# Altium integrated library TI_Logic_Gate.IntLib: 2017 symbols (part 1 of 56)
Pins are listed as number, name and electrical type; pins without a type are passive.

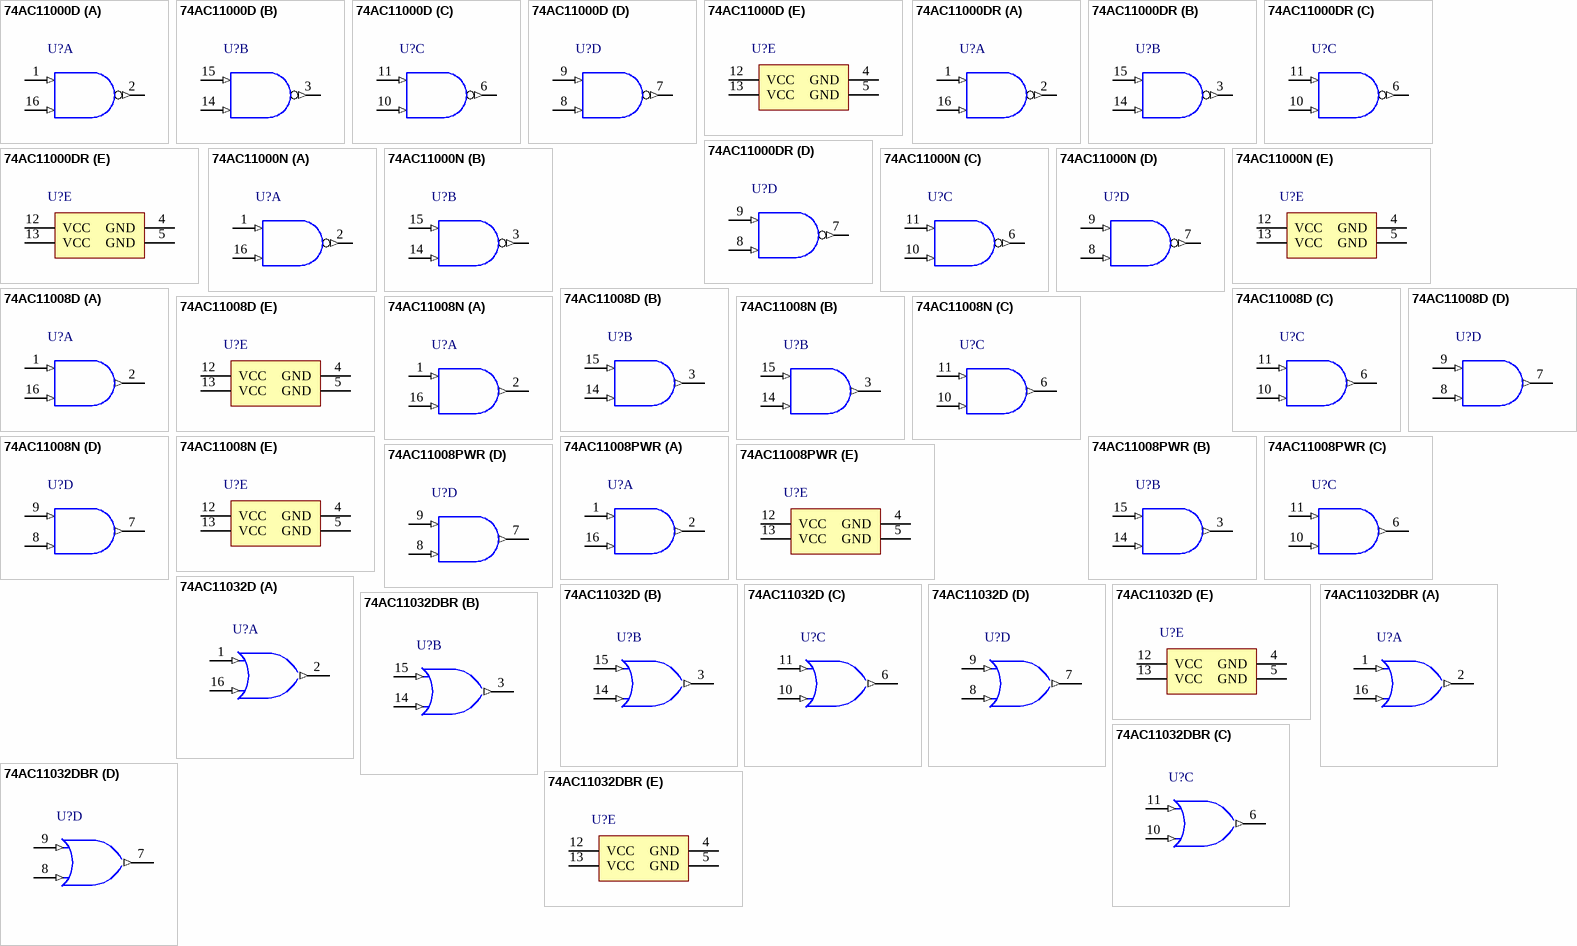
[diagram p0: symbols 74AC11000D to 74AC11032DBR]

## 74AC11000D
designator U?
Quadruple 2-Input Positive-NAND Gates, D0016A, TUBE; Generic Part Number: 74AC11000; Manufacturer: Texas Instruments; PartNumber: 74AC11000D; VCC(Min)(V): 3; VCC(Max)(V): 5.5; Output Type: CMOS; ICC @ Nom Voltage(Max)(mA): 0.04; Bits(#): 4; F @ Nom Voltage(Max)(Mhz): 100; Rating: Catalog; Technology Family: AC; Voltage(Nom)(V): 3.3,5; Schmitt Trigger: No; Output Drive (IOL/IOH)(Max)(mA): 24/-24; tpd @ Nom Voltage(Max)(ns): 11.1,7.4; DatasheetVersion: SCLS054B; PackageReference: D0016A; Supplier 1: Mouser; Supplier Part Number 1: 595-74AC11000D; Supplier 2: Digi-Key; Supplier Part Number 2: 296-32788-5-ND; Input Type: CMOS; Operating Temperature Range(C): -40 to 85; Code_JEDEC: MS-012 variation AC; ComponentLink1Description: Manufacturer URL; ComponentLink1URL: http://www.ti.com/; ComponentLink2Description: Datasheet; ComponentLink2URL: http://www.ti.com/lit/ds/symlink/74ac11000.pdf; ComponentLink3Description: Package Specification; ComponentLink3URL: http://www.ti.com/lit/ml/mpds178g/mpds178g.pdf
footprint D0016A_N (SOIC, 16-Leads, Body 10x4mm, Pitch 1.27mm, IPC Medium Density)
footprint D0016A_M (SOIC, 16-Leads, Body 10x4mm, Pitch 1.27mm, IPC Low Density)
footprint D0016A_L (SOIC, 16-Leads, Body 10x4mm, Pitch 1.27mm, IPC High Density)
part A pins: 1 1A (in), 2 1Y (out), 16 1B (in)
part B pins: 3 2Y (out), 14 2B (in), 15 2A (in)
part C pins: 6 3Y (out), 10 3B (in), 11 3A (in)
part D pins: 7 4Y (out), 8 4B (in), 9 4A (in)
part E pins: 4 GND (power), 5 GND (power), 12 VCC (power), 13 VCC (power)

## 74AC11000DR
designator U?
Quadruple 2-Input Positive-NAND Gates, D0016A, LARGE T&R; Generic Part Number: 74AC11000; Manufacturer: Texas Instruments; PartNumber: 74AC11000DR; VCC(Min)(V): 3; VCC(Max)(V): 5.5; Output Type: CMOS; ICC @ Nom Voltage(Max)(mA): 0.04; Bits(#): 4; F @ Nom Voltage(Max)(Mhz): 100; Rating: Catalog; Technology Family: AC; Voltage(Nom)(V): 3.3,5; Schmitt Trigger: No; Output Drive (IOL/IOH)(Max)(mA): 24/-24; tpd @ Nom Voltage(Max)(ns): 11.1,7.4; DatasheetVersion: SCLS054B; PackageReference: D0016A; Supplier 1: Mouser; Supplier Part Number 1: 595-74AC11000DR; Supplier 2: Digi-Key; Supplier Part Number 2: 74AC11000DR-ND; Input Type: CMOS; Operating Temperature Range(C): -40 to 85; Code_JEDEC: MS-012 variation AC; ComponentLink1Description: Manufacturer URL; ComponentLink1URL: http://www.ti.com/; ComponentLink2Description: Datasheet; ComponentLink2URL: http://www.ti.com/lit/ds/symlink/74ac11000.pdf; ComponentLink3Description: Package Specification; ComponentLink3URL: http://www.ti.com/lit/ml/mpds178g/mpds178g.pdf
footprint D0016A_N (SOIC, 16-Leads, Body 10x4mm, Pitch 1.27mm, IPC Medium Density)
footprint D0016A_M (SOIC, 16-Leads, Body 10x4mm, Pitch 1.27mm, IPC Low Density)
footprint D0016A_L (SOIC, 16-Leads, Body 10x4mm, Pitch 1.27mm, IPC High Density)
part A pins: 1 1A (in), 2 1Y (out), 16 1B (in)
part B pins: 3 2Y (out), 14 2B (in), 15 2A (in)
part C pins: 6 3Y (out), 10 3B (in), 11 3A (in)
part D pins: 7 4Y (out), 8 4B (in), 9 4A (in)
part E pins: 4 GND (power), 5 GND (power), 12 VCC (power), 13 VCC (power)

## 74AC11000N
designator U?
Quadruple 2-Input Positive-NAND Gates, N0016A, TUBE; Generic Part Number: 74AC11000; Manufacturer: Texas Instruments; PartNumber: 74AC11000N; VCC(Min)(V): 3; VCC(Max)(V): 5.5; Output Type: CMOS; ICC @ Nom Voltage(Max)(mA): 0.04; Bits(#): 4; F @ Nom Voltage(Max)(Mhz): 100; Rating: Catalog; Technology Family: AC; Voltage(Nom)(V): 3.3,5; Schmitt Trigger: No; Output Drive (IOL/IOH)(Max)(mA): 24/-24; tpd @ Nom Voltage(Max)(ns): 11.1,7.4; DatasheetVersion: SCLS054B; PackageReference: N0016A; Supplier 1: Mouser; Supplier Part Number 1: 595-74AC11000N; Supplier 2: Digi-Key; Supplier Part Number 2: 74AC11000N-ND; Input Type: CMOS; Operating Temperature Range(C): -40 to 85; Code_JEDEC: MS-001; ComponentLink1Description: Manufacturer URL; ComponentLink1URL: http://www.ti.com/; ComponentLink2Description: Datasheet; ComponentLink2URL: http://www.ti.com/lit/ds/symlink/74ac11000.pdf; ComponentLink3Description: Package Specification; ComponentLink3URL: http://www.ti.com/lit/ml/mpdi002c/mpdi002c.pdf
footprint N0016A (DIP, 16-Leads, Body 19.7x6.6mm, Pitch 2.54mm)
part A pins: 1 1A (in), 2 1Y (out), 16 1B (in)
part B pins: 3 2Y (out), 14 2B (in), 15 2A (in)
part C pins: 6 3Y (out), 10 3B (in), 11 3A (in)
part D pins: 7 4Y (out), 8 4B (in), 9 4A (in)
part E pins: 4 GND (power), 5 GND (power), 12 VCC (power), 13 VCC (power)

## 74AC11008D
designator U?
Quadruple 2-Input Positive-AND Gates, D0016A, TUBE; Generic Part Number: 74AC11008; Manufacturer: Texas Instruments; PartNumber: 74AC11008D; VCC(Min)(V): 3; VCC(Max)(V): 5.5; Output Type: CMOS; ICC @ Nom Voltage(Max)(mA): 0.04; Bits(#): 4; F @ Nom Voltage(Max)(Mhz): 100; Rating: Catalog; Technology Family: AC; Voltage(Nom)(V): 3.3,5; Schmitt Trigger: No; Output Drive (IOL/IOH)(Max)(mA): -24/24; tpd @ Nom Voltage(Max)(ns): 10.2,6.9; DatasheetVersion: SCAS014C; PackageReference: D0016A; Supplier 1: Mouser; Supplier Part Number 1: 595-74AC11008D; Supplier 2: Digi-Key; Supplier Part Number 2: 296-32789-5-ND; Input Type: CMOS; Operating Temperature Range(C): -40 to 85; ComponentLink1Description: Manufacturer URL; ComponentLink1URL: http://www.ti.com/; ComponentLink2Description: Datasheet; ComponentLink2URL: http://www.ti.com/lit/ds/symlink/74ac11008.pdf
footprint D0016A_N (SOIC, 16-Leads, Body 10x4mm, Pitch 1.27mm, IPC Medium Density)
footprint D0016A_M (SOIC, 16-Leads, Body 10x4mm, Pitch 1.27mm, IPC Low Density)
footprint D0016A_L (SOIC, 16-Leads, Body 10x4mm, Pitch 1.27mm, IPC High Density)
part A pins: 1 1A (in), 2 1Y (out), 16 1B (in)
part B pins: 3 2Y (out), 14 2B (in), 15 2A (in)
part C pins: 6 3Y (out), 10 3B (in), 11 3A (in)
part D pins: 7 4Y (out), 8 4B (in), 9 4A (in)
part E pins: 4 GND (power), 5 GND (power), 12 VCC (power), 13 VCC (power)

## 74AC11008N
designator U?
Quadruple 2-Input Positive-AND Gates, N0016A, TUBE; Generic Part Number: 74AC11008; Manufacturer: Texas Instruments; PartNumber: 74AC11008N; VCC(Min)(V): 3; VCC(Max)(V): 5.5; Output Type: CMOS; ICC @ Nom Voltage(Max)(mA): 0.04; Bits(#): 4; F @ Nom Voltage(Max)(Mhz): 100; Rating: Catalog; Technology Family: AC; Voltage(Nom)(V): 3.3,5; Schmitt Trigger: No; Output Drive (IOL/IOH)(Max)(mA): -24/24; tpd @ Nom Voltage(Max)(ns): 10.2,6.9; DatasheetVersion: SCAS014C; PackageReference: N0016A; Supplier 1: Mouser; Supplier Part Number 1: 595-74AC11008N; Supplier 2: Digi-Key; Supplier Part Number 2: 296-4154-5-ND; Input Type: CMOS; Operating Temperature Range(C): -40 to 85; ComponentLink1Description: Manufacturer URL; ComponentLink1URL: http://www.ti.com/; ComponentLink2Description: Datasheet; ComponentLink2URL: http://www.ti.com/lit/ds/symlink/74ac11008.pdf
footprint N0016A (DIP, 16-Leads, Body 19.7x6.6mm, Pitch 2.54mm)
part A pins: 1 1A (in), 2 1Y (out), 16 1B (in)
part B pins: 3 2Y (out), 14 2B (in), 15 2A (in)
part C pins: 6 3Y (out), 10 3B (in), 11 3A (in)
part D pins: 7 4Y (out), 8 4B (in), 9 4A (in)
part E pins: 4 GND (power), 5 GND (power), 12 VCC (power), 13 VCC (power)

## 74AC11008PWR
designator U?
Quadruple 2-Input Positive-AND Gates, PW0016A, LARGE T&R; Generic Part Number: 74AC11008; Manufacturer: Texas Instruments; PartNumber: 74AC11008PWR; VCC(Min)(V): 3; VCC(Max)(V): 5.5; Output Type: CMOS; ICC @ Nom Voltage(Max)(mA): 0.04; Bits(#): 4; F @ Nom Voltage(Max)(Mhz): 100; Rating: Catalog; Technology Family: AC; Voltage(Nom)(V): 3.3,5; Schmitt Trigger: No; Output Drive (IOL/IOH)(Max)(mA): -24/24; tpd @ Nom Voltage(Max)(ns): 10.2,6.9; DatasheetVersion: SCAS014C; PackageReference: PW0016A; Supplier 1: Mouser; Supplier Part Number 1: 595-74AC11008PWR; Supplier 2: Digi-Key; Supplier Part Number 2: 296-4155-2-ND; Supplier 3: Digi-Key; Supplier Part Number 3: 296-4155-1-ND; Supplier 4: Digi-Key; Supplier Part Number 4: 296-4155-6-ND; Input Type: CMOS; Operating Temperature Range(C): -40 to 85; ComponentLink1Description: Manufacturer URL; ComponentLink1URL: http://www.ti.com/; ComponentLink2Description: Datasheet; ComponentLink2URL: http://www.ti.com/lit/ds/symlink/74ac11008.pdf
footprint PW0016A_N (SOP, 16-Leads, Body 5.1x4.5mm, Pitch 0.65mm, IPC Medium Density)
footprint PW0016A_M (SOP, 16-Leads, Body 5.1x4.5mm, Pitch 0.65mm, IPC Low Density)
footprint PW0016A_L (SOP, 16-Leads, Body 5.1x4.5mm, Pitch 0.65mm, IPC High Density)
part A pins: 1 1A (in), 2 1Y (out), 16 1B (in)
part B pins: 3 2Y (out), 14 2B (in), 15 2A (in)
part C pins: 6 3Y (out), 10 3B (in), 11 3A (in)
part D pins: 7 4Y (out), 8 4B (in), 9 4A (in)
part E pins: 4 GND (power), 5 GND (power), 12 VCC (power), 13 VCC (power)

## 74AC11032D
designator U?
Quadruple 2-Input Positive-OR Gates, D0016A, TUBE; Generic Part Number: 74AC11032; Manufacturer: Texas Instruments; PartNumber: 74AC11032D; VCC(Min)(V): 3; VCC(Max)(V): 5.5; Output Type: CMOS; ICC @ Nom Voltage(Max)(mA): 0.04; Bits(#): 4; F @ Nom Voltage(Max)(Mhz): 100; Rating: Catalog; Voltage(Nom)(V): 3.3,5; Output Drive (IOL/IOH)(Max)(mA): 24/-24; tpd @ Nom Voltage(Max)(ns): 9.7,6.7; DatasheetVersion: SCAS007C; PackageReference: D0016A; Input Type: CMOS; Operating Temperature Range(C): -40 to 85; Code_JEDEC: MS-012 variation AC; ComponentLink1Description: Manufacturer URL; ComponentLink1URL: http://www.ti.com/; ComponentLink2Description: Datasheet; ComponentLink2URL: http://www.ti.com/lit/ds/symlink/74ac11032.pdf; ComponentLink3Description: Package Specification; ComponentLink3URL: http://www.ti.com/lit/ml/mpds178g/mpds178g.pdf
footprint D0016A_N (SOIC, 16-Leads, Body 10x4mm, Pitch 1.27mm, IPC Medium Density)
footprint D0016A_M (SOIC, 16-Leads, Body 10x4mm, Pitch 1.27mm, IPC Low Density)
footprint D0016A_L (SOIC, 16-Leads, Body 10x4mm, Pitch 1.27mm, IPC High Density)
part A pins: 1 1A (in), 2 1Y (out), 16 1B (in)
part B pins: 3 2Y (out), 14 2B (in), 15 2A (in)
part C pins: 6 3Y (out), 10 3B (in), 11 3A (in)
part D pins: 7 4Y (out), 8 4B (in), 9 4A (in)
part E pins: 4 GND (power), 5 GND (power), 12 VCC (power), 13 VCC (power)

## 74AC11032DBR
designator U?
Quadruple 2-Input Positive-OR Gates, DB0016A, LARGE T&R; Generic Part Number: 74AC11032; Manufacturer: Texas Instruments; PartNumber: 74AC11032DBR; VCC(Min)(V): 3; VCC(Max)(V): 5.5; Output Type: CMOS; ICC @ Nom Voltage(Max)(mA): 0.04; Bits(#): 4; F @ Nom Voltage(Max)(Mhz): 100; Rating: Catalog; Voltage(Nom)(V): 3.3,5; Output Drive (IOL/IOH)(Max)(mA): 24/-24; tpd @ Nom Voltage(Max)(ns): 9.7,6.7; DatasheetVersion: SCAS007C; PackageReference: DB0016A; Input Type: CMOS; Operating Temperature Range(C): -40 to 85; Code_JEDEC: MO-150; ComponentLink1Description: Manufacturer URL; ComponentLink1URL: http://www.ti.com/; ComponentLink2Description: Datasheet; ComponentLink2URL: http://www.ti.com/lit/ds/symlink/74ac11032.pdf; ComponentLink3Description: Package Specification; ComponentLink3URL: http://www.ti.com/lit/ml/mpds507/mpds507.pdf
footprint DB0016A_N (SOP, 16-Leads, Body 5.6x6.5mm, Pitch 0.65mm, IPC Medium Density)
footprint DB0016A_M (SOP, 16-Leads, Body 5.6x6.5mm, Pitch 0.65mm, IPC Low Density)
footprint DB0016A_L (SOP, 16-Leads, Body 5.6x6.5mm, Pitch 0.65mm, IPC High Density)
part A pins: 1 1A (in), 2 1Y (out), 16 1B (in)
part B pins: 3 2Y (out), 14 2B (in), 15 2A (in)
part C pins: 6 3Y (out), 10 3B (in), 11 3A (in)
part D pins: 7 4Y (out), 8 4B (in), 9 4A (in)
part E pins: 4 GND (power), 5 GND (power), 12 VCC (power), 13 VCC (power)

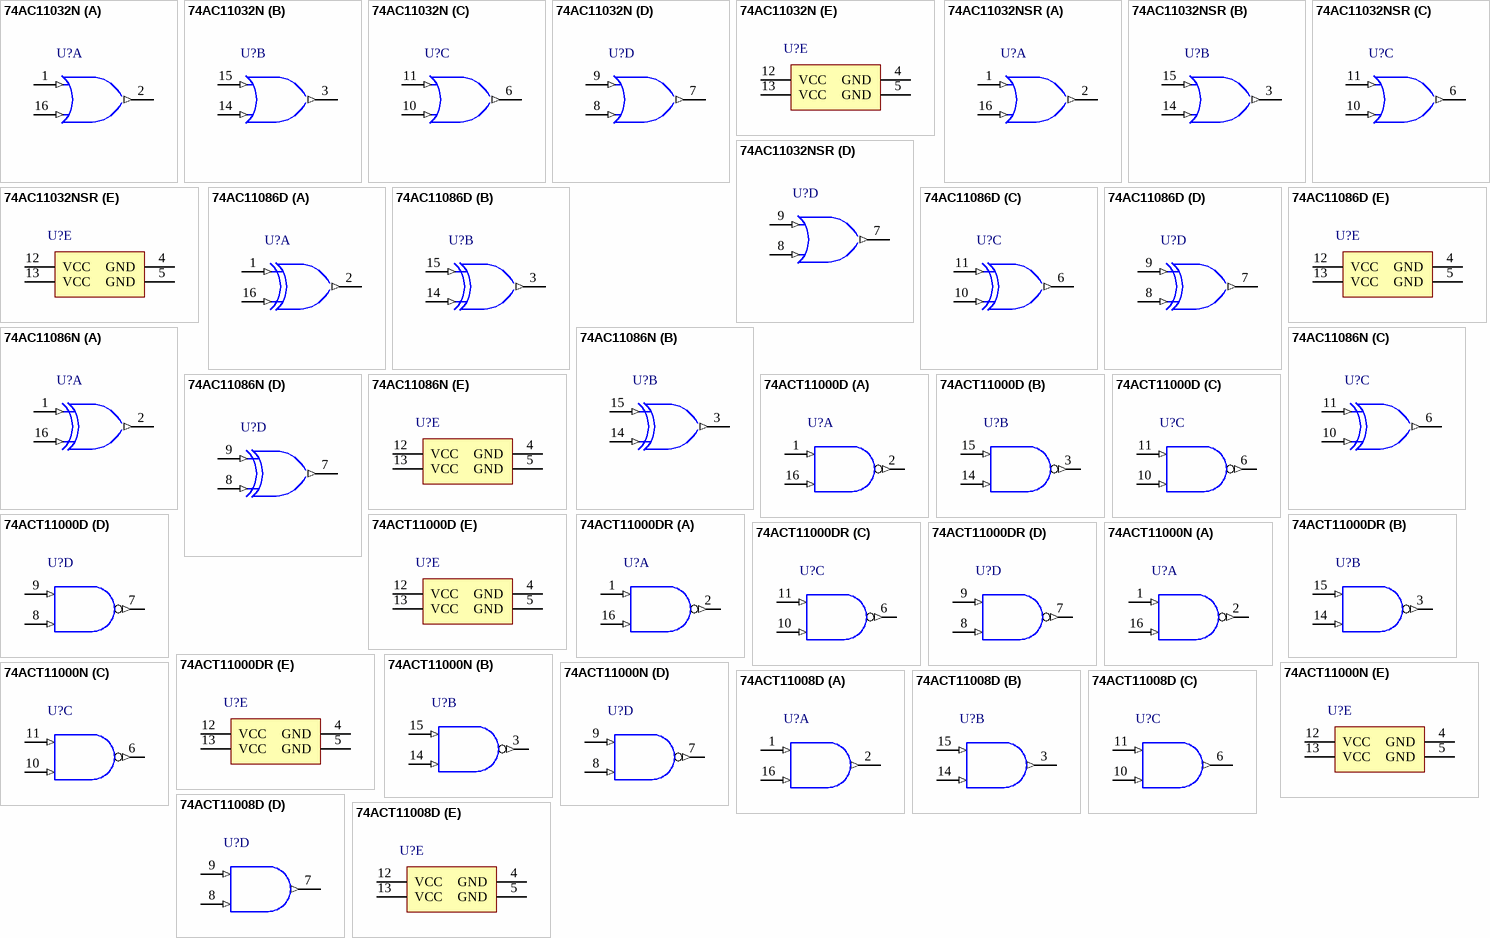
[diagram p1: symbols 74AC11032N to 74ACT11008D]

## 74AC11032N
designator U?
Quadruple 2-Input Positive-OR Gates, N0016A, TUBE; Generic Part Number: 74AC11032; Manufacturer: Texas Instruments; PartNumber: 74AC11032N; VCC(Min)(V): 3; VCC(Max)(V): 5.5; Output Type: CMOS; ICC @ Nom Voltage(Max)(mA): 0.04; Bits(#): 4; F @ Nom Voltage(Max)(Mhz): 100; Rating: Catalog; Voltage(Nom)(V): 3.3,5; Output Drive (IOL/IOH)(Max)(mA): 24/-24; tpd @ Nom Voltage(Max)(ns): 9.7,6.7; DatasheetVersion: SCAS007C; PackageReference: N0016A; Input Type: CMOS; Operating Temperature Range(C): -40 to 85; Code_JEDEC: MS-001; ComponentLink1Description: Manufacturer URL; ComponentLink1URL: http://www.ti.com/; ComponentLink2Description: Datasheet; ComponentLink2URL: http://www.ti.com/lit/ds/symlink/74ac11032.pdf; ComponentLink3Description: Package Specification; ComponentLink3URL: http://www.ti.com/lit/ml/mpdi002c/mpdi002c.pdf
footprint N0016A (DIP, 16-Leads, Body 19.7x6.6mm, Pitch 2.54mm)
part A pins: 1 1A (in), 2 1Y (out), 16 1B (in)
part B pins: 3 2Y (out), 14 2B (in), 15 2A (in)
part C pins: 6 3Y (out), 10 3B (in), 11 3A (in)
part D pins: 7 4Y (out), 8 4B (in), 9 4A (in)
part E pins: 4 GND (power), 5 GND (power), 12 VCC (power), 13 VCC (power)

## 74AC11032NSR
designator U?
Quadruple 2-Input Positive-OR Gates, NS0016A, LARGE T&R; Generic Part Number: 74AC11032; Manufacturer: Texas Instruments; PartNumber: 74AC11032NSR; VCC(Min)(V): 3; VCC(Max)(V): 5.5; Output Type: CMOS; ICC @ Nom Voltage(Max)(mA): 0.04; Bits(#): 4; F @ Nom Voltage(Max)(Mhz): 100; Rating: Catalog; Voltage(Nom)(V): 3.3,5; Output Drive (IOL/IOH)(Max)(mA): 24/-24; tpd @ Nom Voltage(Max)(ns): 9.7,6.7; DatasheetVersion: SCAS007C; PackageReference: NS0016A; Input Type: CMOS; Operating Temperature Range(C): -40 to 85; ComponentLink1Description: Manufacturer URL; ComponentLink1URL: http://www.ti.com/; ComponentLink2Description: Datasheet; ComponentLink2URL: http://www.ti.com/lit/ds/symlink/74ac11032.pdf; ComponentLink3Description: Package Specification; ComponentLink3URL: http://www.ti.com/lit/ml/msop002a/msop002a.pdf
footprint NS0016A_N (SOIC,16-Leads,Body 10.5x5.6mm,Pitch 1.27mm,IPC Medium Density)
footprint NS0016A_M (SOIC,16-Leads,Body 10.5x5.6mm,Pitch 1.27mm,IPC Low Density)
footprint NS0016A_L (SOIC,16-Leads,Body 10.5x5.6mm,Pitch 1.27mm,IPC High Density)
part A pins: 1 1A (in), 2 1Y (out), 16 1B (in)
part B pins: 3 2Y (out), 14 2B (in), 15 2A (in)
part C pins: 6 3Y (out), 10 3B (in), 11 3A (in)
part D pins: 7 4Y (out), 8 4B (in), 9 4A (in)
part E pins: 4 GND (power), 5 GND (power), 12 VCC (power), 13 VCC (power)

## 74AC11086D
designator U?
Quadruple 2-Input Exclusive-OR Gates, D0016A, TUBE; Generic Part Number: 74AC11086; Manufacturer: Texas Instruments; PartNumber: 74AC11086D; VCC(Min)(V): 3; VCC(Max)(V): 5.5; Output Type: CMOS; ICC @ Nom Voltage(Max)(mA): 0.04; Bits(#): 4; F @ Nom Voltage(Max)(Mhz): 100; Rating: Catalog; Technology Family: AC; Voltage(Nom)(V): 3.3,5; Schmitt Trigger: No; Output Drive (IOL/IOH)(Max)(mA): 24/-24; tpd @ Nom Voltage(Max)(ns): 10.6,7.6; DatasheetVersion: SCAS081A; PackageReference: D0016A; Supplier 1: Mouser; Supplier Part Number 1: 595-74AC11086D; Supplier 2: Digi-Key; Supplier Part Number 2: 296-4161-5-ND; Input Type: CMOS; Operating Temperature Range(C): -40 to 85; ComponentLink1Description: Manufacturer URL; ComponentLink1URL: http://www.ti.com/; ComponentLink2Description: Datasheet; ComponentLink2URL: http://www.ti.com/lit/ds/symlink/74ac11086.pdf
footprint D0016A_N (SOIC, 16-Leads, Body 10x4mm, Pitch 1.27mm, IPC Medium Density)
footprint D0016A_M (SOIC, 16-Leads, Body 10x4mm, Pitch 1.27mm, IPC Low Density)
footprint D0016A_L (SOIC, 16-Leads, Body 10x4mm, Pitch 1.27mm, IPC High Density)
part A pins: 1 1A (in), 2 1Y (out), 16 1B (in)
part B pins: 3 2Y (out), 14 2B (in), 15 2A (in)
part C pins: 6 3Y (out), 10 3B (in), 11 3A (in)
part D pins: 7 4Y (out), 8 4B (in), 9 4A (in)
part E pins: 4 GND (power), 5 GND (power), 12 VCC (power), 13 VCC (power)

## 74AC11086N
designator U?
Quadruple 2-Input Exclusive-OR Gates, N0016A, TUBE; Generic Part Number: 74AC11086; Manufacturer: Texas Instruments; PartNumber: 74AC11086N; VCC(Min)(V): 3; VCC(Max)(V): 5.5; Output Type: CMOS; ICC @ Nom Voltage(Max)(mA): 0.04; Bits(#): 4; F @ Nom Voltage(Max)(Mhz): 100; Rating: Catalog; Technology Family: AC; Voltage(Nom)(V): 3.3,5; Schmitt Trigger: No; Output Drive (IOL/IOH)(Max)(mA): 24/-24; tpd @ Nom Voltage(Max)(ns): 10.6,7.6; DatasheetVersion: SCAS081A; PackageReference: N0016A; Supplier 1: Mouser; Supplier Part Number 1: 595-74AC11086N; Supplier 2: Digi-Key; Supplier Part Number 2: 296-32791-5-ND; Input Type: CMOS; Operating Temperature Range(C): -40 to 85; ComponentLink1Description: Manufacturer URL; ComponentLink1URL: http://www.ti.com/; ComponentLink2Description: Datasheet; ComponentLink2URL: http://www.ti.com/lit/ds/symlink/74ac11086.pdf
footprint N0016A (DIP, 16-Leads, Body 19.7x6.6mm, Pitch 2.54mm)
part A pins: 1 1A (in), 2 1Y (out), 16 1B (in)
part B pins: 3 2Y (out), 14 2B (in), 15 2A (in)
part C pins: 6 3Y (out), 10 3B (in), 11 3A (in)
part D pins: 7 4Y (out), 8 4B (in), 9 4A (in)
part E pins: 4 GND (power), 5 GND (power), 12 VCC (power), 13 VCC (power)

## 74ACT11000D
designator U?
Quadruple 2-Input Positive-NAND Gates, D0016A, TUBE; Generic Part Number: 74ACT11000; Manufacturer: Texas Instruments; PartNumber: 74ACT11000D; VCC(Min)(V): 4.5; VCC(Max)(V): 5.5; Output Type: CMOS; ICC @ Nom Voltage(Max)(mA): 0.04; Input Type: TTL; Bits(#): 4; F @ Nom Voltage(Max)(Mhz): 90; Rating: Catalog; Technology Family: ACT; Voltage(Nom)(V): 5; Schmitt Trigger: No; Output Drive (IOL/IOH)(Max)(mA): 24/-24; tpd @ Nom Voltage(Max)(ns): 12.3; DatasheetVersion: SCAS002A; PackageReference: D0016A; Supplier 1: Mouser; Supplier Part Number 1: 595-74ACT11000D; Supplier 2: Digi-Key; Supplier Part Number 2: 296-4175-5-ND; Operating Temperature Range(C): -40 to 85; Code_JEDEC: MS-012 variation AC; ComponentLink1Description: Manufacturer URL; ComponentLink1URL: http://www.ti.com/; ComponentLink2Description: Datasheet; ComponentLink2URL: http://www.ti.com/lit/ds/symlink/74act11000.pdf; ComponentLink3Description: Package Specification; ComponentLink3URL: http://www.ti.com/lit/ml/mpds178g/mpds178g.pdf
footprint D0016A_N (SOIC, 16-Leads, Body 10x4mm, Pitch 1.27mm, IPC Medium Density)
footprint D0016A_M (SOIC, 16-Leads, Body 10x4mm, Pitch 1.27mm, IPC Low Density)
footprint D0016A_L (SOIC, 16-Leads, Body 10x4mm, Pitch 1.27mm, IPC High Density)
part A pins: 1 1A (in), 2 1Y (out), 16 1B (in)
part B pins: 3 2Y (out), 14 2B (in), 15 2A (in)
part C pins: 6 3Y (out), 10 3B (in), 11 3A (in)
part D pins: 7 4Y (out), 8 4B (in), 9 4A (in)
part E pins: 4 GND (power), 5 GND (power), 12 VCC (power), 13 VCC (power)

## 74ACT11000DR
designator U?
Quadruple 2-Input Positive-NAND Gates, D0016A, LARGE T&R; Generic Part Number: 74ACT11000; Manufacturer: Texas Instruments; PartNumber: 74ACT11000DR; VCC(Min)(V): 4.5; VCC(Max)(V): 5.5; Output Type: CMOS; ICC @ Nom Voltage(Max)(mA): 0.04; Input Type: TTL; Bits(#): 4; F @ Nom Voltage(Max)(Mhz): 90; Rating: Catalog; Technology Family: ACT; Voltage(Nom)(V): 5; Schmitt Trigger: No; Output Drive (IOL/IOH)(Max)(mA): 24/-24; tpd @ Nom Voltage(Max)(ns): 12.3; DatasheetVersion: SCAS002A; PackageReference: D0016A; Supplier 1: Mouser; Supplier Part Number 1: 595-74ACT11000DR; Supplier 2: Digi-Key; Supplier Part Number 2: 296-14295-2-ND; Supplier 3: Digi-Key; Supplier Part Number 3: 296-14295-1-ND; Supplier 4: Digi-Key; Supplier Part Number 4: 296-14295-6-ND; Operating Temperature Range(C): -40 to 85; Code_JEDEC: MS-012 variation AC; ComponentLink1Description: Manufacturer URL; ComponentLink1URL: http://www.ti.com/; ComponentLink2Description: Datasheet; ComponentLink2URL: http://www.ti.com/lit/ds/symlink/74act11000.pdf; ComponentLink3Description: Package Specification; ComponentLink3URL: http://www.ti.com/lit/ml/mpds178g/mpds178g.pdf
footprint D0016A_N (SOIC, 16-Leads, Body 10x4mm, Pitch 1.27mm, IPC Medium Density)
footprint D0016A_M (SOIC, 16-Leads, Body 10x4mm, Pitch 1.27mm, IPC Low Density)
footprint D0016A_L (SOIC, 16-Leads, Body 10x4mm, Pitch 1.27mm, IPC High Density)
part A pins: 1 1A (in), 2 1Y (out), 16 1B (in)
part B pins: 3 2Y (out), 14 2B (in), 15 2A (in)
part C pins: 6 3Y (out), 10 3B (in), 11 3A (in)
part D pins: 7 4Y (out), 8 4B (in), 9 4A (in)
part E pins: 4 GND (power), 5 GND (power), 12 VCC (power), 13 VCC (power)

## 74ACT11000N
designator U?
Quadruple 2-Input Positive-NAND Gates, N0016A, TUBE; Generic Part Number: 74ACT11000; Manufacturer: Texas Instruments; PartNumber: 74ACT11000N; VCC(Min)(V): 4.5; VCC(Max)(V): 5.5; Output Type: CMOS; ICC @ Nom Voltage(Max)(mA): 0.04; Input Type: TTL; Bits(#): 4; F @ Nom Voltage(Max)(Mhz): 90; Rating: Catalog; Technology Family: ACT; Voltage(Nom)(V): 5; Schmitt Trigger: No; Output Drive (IOL/IOH)(Max)(mA): 24/-24; tpd @ Nom Voltage(Max)(ns): 12.3; DatasheetVersion: SCAS002A; PackageReference: N0016A; Supplier 1: Mouser; Supplier Part Number 1: 595-74ACT11000N; Supplier 2: Digi-Key; Supplier Part Number 2: 296-4176-5-ND; Operating Temperature Range(C): -40 to 85; Code_JEDEC: MS-001; ComponentLink1Description: Manufacturer URL; ComponentLink1URL: http://www.ti.com/; ComponentLink2Description: Datasheet; ComponentLink2URL: http://www.ti.com/lit/ds/symlink/74act11000.pdf; ComponentLink3Description: Package Specification; ComponentLink3URL: http://www.ti.com/lit/ml/mpdi002c/mpdi002c.pdf
footprint N0016A (DIP, 16-Leads, Body 19.7x6.6mm, Pitch 2.54mm)
part A pins: 1 1A (in), 2 1Y (out), 16 1B (in)
part B pins: 3 2Y (out), 14 2B (in), 15 2A (in)
part C pins: 6 3Y (out), 10 3B (in), 11 3A (in)
part D pins: 7 4Y (out), 8 4B (in), 9 4A (in)
part E pins: 4 GND (power), 5 GND (power), 12 VCC (power), 13 VCC (power)

## 74ACT11008D
designator U?
Quadruple 2-Input Positive-AND Gates, D0016A, TUBE; Generic Part Number: 74ACT11008; Manufacturer: Texas Instruments; PartNumber: 74ACT11008D; VCC(Min)(V): 4.5; VCC(Max)(V): 5.5; Output Type: CMOS; ICC @ Nom Voltage(Max)(mA): 0.04; Input Type: TTL; Bits(#): 4; F @ Nom Voltage(Max)(Mhz): 90; Rating: Catalog; Technology Family: ACT; Voltage(Nom)(V): 5; Schmitt Trigger: No; Output Drive (IOL/IOH)(Max)(mA): -24/24; tpd @ Nom Voltage(Max)(ns): 9; DatasheetVersion: SCAS013C; PackageReference: D0016A; Supplier 1: Mouser; Supplier Part Number 1: 595-74ACT11008D; Supplier 2: Digi-Key; Supplier Part Number 2: 296-4178-5-ND; Operating Temperature Range(C): -40 to 85; ComponentLink1Description: Manufacturer URL; ComponentLink1URL: http://www.ti.com/; ComponentLink2Description: Datasheet; ComponentLink2URL: http://www.ti.com/lit/ds/symlink/74act11008.pdf
footprint D0016A_N (SOIC, 16-Leads, Body 10x4mm, Pitch 1.27mm, IPC Medium Density)
footprint D0016A_M (SOIC, 16-Leads, Body 10x4mm, Pitch 1.27mm, IPC Low Density)
footprint D0016A_L (SOIC, 16-Leads, Body 10x4mm, Pitch 1.27mm, IPC High Density)
part A pins: 1 1A (in), 2 1Y (out), 16 1B (in)
part B pins: 3 2Y (out), 14 2B (in), 15 2A (in)
part C pins: 6 3Y (out), 10 3B (in), 11 3A (in)
part D pins: 7 4Y (out), 8 4B (in), 9 4A (in)
part E pins: 4 GND (power), 5 GND (power), 12 VCC (power), 13 VCC (power)

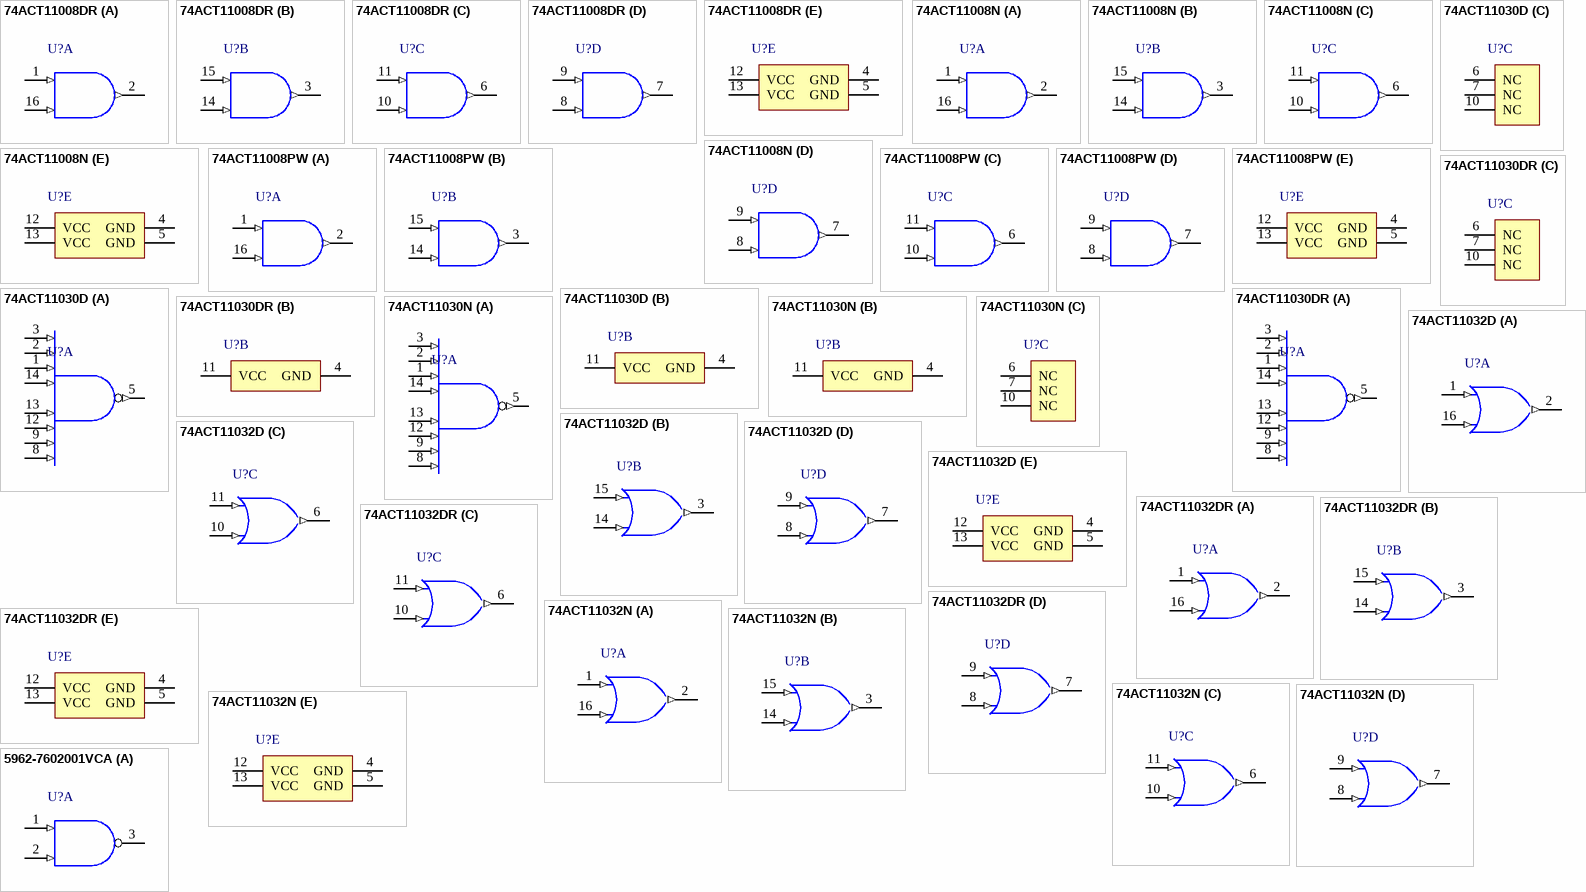
[diagram p2: symbols 74ACT11008DR to 5962-7602001VCA]

## 74ACT11008DR
designator U?
Quadruple 2-Input Positive-AND Gates, D0016A, LARGE T&R; Generic Part Number: 74ACT11008; Manufacturer: Texas Instruments; PartNumber: 74ACT11008DR; VCC(Min)(V): 4.5; VCC(Max)(V): 5.5; Output Type: CMOS; ICC @ Nom Voltage(Max)(mA): 0.04; Input Type: TTL; Bits(#): 4; F @ Nom Voltage(Max)(Mhz): 90; Rating: Catalog; Technology Family: ACT; Voltage(Nom)(V): 5; Schmitt Trigger: No; Output Drive (IOL/IOH)(Max)(mA): -24/24; tpd @ Nom Voltage(Max)(ns): 9; DatasheetVersion: SCAS013C; PackageReference: D0016A; Supplier 1: Mouser; Supplier Part Number 1: 595-74ACT11008DR; Supplier 2: Digi-Key; Supplier Part Number 2: 74ACT11008DR-ND; Operating Temperature Range(C): -40 to 85; ComponentLink1Description: Manufacturer URL; ComponentLink1URL: http://www.ti.com/; ComponentLink2Description: Datasheet; ComponentLink2URL: http://www.ti.com/lit/ds/symlink/74act11008.pdf
footprint D0016A_N (SOIC, 16-Leads, Body 10x4mm, Pitch 1.27mm, IPC Medium Density)
footprint D0016A_M (SOIC, 16-Leads, Body 10x4mm, Pitch 1.27mm, IPC Low Density)
footprint D0016A_L (SOIC, 16-Leads, Body 10x4mm, Pitch 1.27mm, IPC High Density)
part A pins: 1 1A (in), 2 1Y (out), 16 1B (in)
part B pins: 3 2Y (out), 14 2B (in), 15 2A (in)
part C pins: 6 3Y (out), 10 3B (in), 11 3A (in)
part D pins: 7 4Y (out), 8 4B (in), 9 4A (in)
part E pins: 4 GND (power), 5 GND (power), 12 VCC (power), 13 VCC (power)

## 74ACT11008N
designator U?
Quadruple 2-Input Positive-AND Gates, N0016A, TUBE; Generic Part Number: 74ACT11008; Manufacturer: Texas Instruments; PartNumber: 74ACT11008N; VCC(Min)(V): 4.5; VCC(Max)(V): 5.5; Output Type: CMOS; ICC @ Nom Voltage(Max)(mA): 0.04; Input Type: TTL; Bits(#): 4; F @ Nom Voltage(Max)(Mhz): 90; Rating: Catalog; Technology Family: ACT; Voltage(Nom)(V): 5; Schmitt Trigger: No; Output Drive (IOL/IOH)(Max)(mA): -24/24; tpd @ Nom Voltage(Max)(ns): 9; DatasheetVersion: SCAS013C; PackageReference: N0016A; Supplier 1: Mouser; Supplier Part Number 1: 595-74ACT11008N; Supplier 2: Digi-Key; Supplier Part Number 2: 296-4179-5-ND; Operating Temperature Range(C): -40 to 85; ComponentLink1Description: Manufacturer URL; ComponentLink1URL: http://www.ti.com/; ComponentLink2Description: Datasheet; ComponentLink2URL: http://www.ti.com/lit/ds/symlink/74act11008.pdf
footprint N0016A (DIP, 16-Leads, Body 19.7x6.6mm, Pitch 2.54mm)
part A pins: 1 1A (in), 2 1Y (out), 16 1B (in)
part B pins: 3 2Y (out), 14 2B (in), 15 2A (in)
part C pins: 6 3Y (out), 10 3B (in), 11 3A (in)
part D pins: 7 4Y (out), 8 4B (in), 9 4A (in)
part E pins: 4 GND (power), 5 GND (power), 12 VCC (power), 13 VCC (power)

## 74ACT11008PW
designator U?
Quadruple 2-Input Positive-AND Gates, PW0016A, TUBE; Generic Part Number: 74ACT11008; Manufacturer: Texas Instruments; PartNumber: 74ACT11008PW; VCC(Min)(V): 4.5; VCC(Max)(V): 5.5; Output Type: CMOS; ICC @ Nom Voltage(Max)(mA): 0.04; Input Type: TTL; Bits(#): 4; F @ Nom Voltage(Max)(Mhz): 90; Rating: Catalog; Technology Family: ACT; Voltage(Nom)(V): 5; Schmitt Trigger: No; Output Drive (IOL/IOH)(Max)(mA): -24/24; tpd @ Nom Voltage(Max)(ns): 9; DatasheetVersion: SCAS013C; PackageReference: PW0016A; Supplier 1: Mouser; Supplier Part Number 1: 595-74ACT11008PW; Supplier 2: Digi-Key; Supplier Part Number 2: 296-32801-5-ND; Operating Temperature Range(C): -40 to 85; ComponentLink1Description: Manufacturer URL; ComponentLink1URL: http://www.ti.com/; ComponentLink2Description: Datasheet; ComponentLink2URL: http://www.ti.com/lit/ds/symlink/74act11008.pdf
footprint PW0016A_N (SOP, 16-Leads, Body 5.1x4.5mm, Pitch 0.65mm, IPC Medium Density)
footprint PW0016A_M (SOP, 16-Leads, Body 5.1x4.5mm, Pitch 0.65mm, IPC Low Density)
footprint PW0016A_L (SOP, 16-Leads, Body 5.1x4.5mm, Pitch 0.65mm, IPC High Density)
part A pins: 1 1A (in), 2 1Y (out), 16 1B (in)
part B pins: 3 2Y (out), 14 2B (in), 15 2A (in)
part C pins: 6 3Y (out), 10 3B (in), 11 3A (in)
part D pins: 7 4Y (out), 8 4B (in), 9 4A (in)
part E pins: 4 GND (power), 5 GND (power), 12 VCC (power), 13 VCC (power)

## 74ACT11030D
designator U?
8-Input Positive-NAND Gates, D0014A, TUBE; Generic Part Number: 74ACT11030; Manufacturer: Texas Instruments; PartNumber: 74ACT11030D; VCC(Min)(V): 4.5; VCC(Max)(V): 5.5; Output Type: CMOS; ICC @ Nom Voltage(Max)(mA): 0.04; Input Type: TTL; Bits(#): 1; F @ Nom Voltage(Max)(Mhz): 90; Rating: Catalog; Technology Family: ACT; Voltage(Nom)(V): 5; Schmitt Trigger: No; Output Drive (IOL/IOH)(Max)(mA): 24/-24; tpd @ Nom Voltage(Max)(ns): 8.7; DatasheetVersion: SCLS050; PackageReference: D0014A; Supplier 1: Mouser; Supplier Part Number 1: 595-74ACT11030D; Supplier 2: Digi-Key; Supplier Part Number 2: 74ACT11030D-ND; Operating Temperature Range(C): -40 to 85; Code_JEDEC: MS-012; ComponentLink1Description: Manufacturer URL; ComponentLink1URL: http://www.ti.com/; ComponentLink2Description: Datasheet; ComponentLink2URL: http://www.ti.com/lit/ds/symlink/74act11030.pdf; ComponentLink3Description: Package Specification; ComponentLink3URL: http://www.ti.com/lit/ml/mpds177g/mpds177g.pdf
footprint D0014A_N (SOIC, 14-Leads, Body 8.75x4mm, Pitch 1.27mm, IPC Medium Density)
footprint D0014A_M (SOIC, 14-Leads, Body 8.75x4mm, Pitch 1.27mm, IPC Low Density)
footprint D0014A_L (SOIC, 14-Leads, Body 8.75x4mm, Pitch 1.27mm, IPC High Density)
part A pins: 1 C (in), 2 B (in), 3 A (in), 5 Y (out), 8 H (in), 9 G (in), 12 F (in), 13 E (in), 14 D (in)
part B pins: 4 GND (power), 11 VCC (power)
part C pins: 6 NC, 7 NC, 10 NC

## 74ACT11030DR
designator U?
8-Input Positive-NAND Gates, D0014A, LARGE T&R; Generic Part Number: 74ACT11030; Manufacturer: Texas Instruments; PartNumber: 74ACT11030DR; VCC(Min)(V): 4.5; VCC(Max)(V): 5.5; Output Type: CMOS; ICC @ Nom Voltage(Max)(mA): 0.04; Input Type: TTL; Bits(#): 1; F @ Nom Voltage(Max)(Mhz): 90; Rating: Catalog; Technology Family: ACT; Voltage(Nom)(V): 5; Schmitt Trigger: No; Output Drive (IOL/IOH)(Max)(mA): 24/-24; tpd @ Nom Voltage(Max)(ns): 8.7; DatasheetVersion: SCLS050; PackageReference: D0014A; Supplier 1: Mouser; Supplier Part Number 1: 595-74ACT11030DR; Supplier 2: Digi-Key; Supplier Part Number 2: 296-4180-2-ND; Supplier 3: Digi-Key; Supplier Part Number 3: 296-4180-1-ND; Supplier 4: Digi-Key; Supplier Part Number 4: 296-4180-6-ND; Operating Temperature Range(C): -40 to 85; Code_JEDEC: MS-012; ComponentLink1Description: Manufacturer URL; ComponentLink1URL: http://www.ti.com/; ComponentLink2Description: Datasheet; ComponentLink2URL: http://www.ti.com/lit/ds/symlink/74act11030.pdf; ComponentLink3Description: Package Specification; ComponentLink3URL: http://www.ti.com/lit/ml/mpds177g/mpds177g.pdf
footprint D0014A_N (SOIC, 14-Leads, Body 8.75x4mm, Pitch 1.27mm, IPC Medium Density)
footprint D0014A_M (SOIC, 14-Leads, Body 8.75x4mm, Pitch 1.27mm, IPC Low Density)
footprint D0014A_L (SOIC, 14-Leads, Body 8.75x4mm, Pitch 1.27mm, IPC High Density)
part A pins: 1 C (in), 2 B (in), 3 A (in), 5 Y (out), 8 H (in), 9 G (in), 12 F (in), 13 E (in), 14 D (in)
part B pins: 4 GND (power), 11 VCC (power)
part C pins: 6 NC, 7 NC, 10 NC

## 74ACT11030N
designator U?
8-Input Positive-NAND Gates, N0014A, TUBE; Generic Part Number: 74ACT11030; Manufacturer: Texas Instruments; PartNumber: 74ACT11030N; VCC(Min)(V): 4.5; VCC(Max)(V): 5.5; Output Type: CMOS; ICC @ Nom Voltage(Max)(mA): 0.04; Input Type: TTL; Bits(#): 1; F @ Nom Voltage(Max)(Mhz): 90; Rating: Catalog; Technology Family: ACT; Voltage(Nom)(V): 5; Schmitt Trigger: No; Output Drive (IOL/IOH)(Max)(mA): 24/-24; tpd @ Nom Voltage(Max)(ns): 8.7; DatasheetVersion: SCLS050; PackageReference: N0014A; Supplier 1: Mouser; Supplier Part Number 1: 595-74ACT11030N; Supplier 2: Digi-Key; Supplier Part Number 2: 296-32802-5-ND; Operating Temperature Range(C): -40 to 85; Code_JEDEC: MS-001; ComponentLink1Description: Manufacturer URL; ComponentLink1URL: http://www.ti.com/; ComponentLink2Description: Datasheet; ComponentLink2URL: http://www.ti.com/lit/ds/symlink/74act11030.pdf; ComponentLink3Description: Package Specification; ComponentLink3URL: http://www.ti.com/lit/ml/mpdi002c/mpdi002c.pdf
footprint N0014A (DIP, 14-Leads, Body 19.7x6.6mm, Pitch 2.54mm)
part A pins: 1 C (in), 2 B (in), 3 A (in), 5 Y (out), 8 H (in), 9 G (in), 12 F (in), 13 E (in), 14 D (in)
part B pins: 4 GND (power), 11 VCC (power)
part C pins: 6 NC, 7 NC, 10 NC

## 74ACT11032D
designator U?
Quadruple 2-Input Positive-OR Gates, D0016A, TUBE; Generic Part Number: 74ACT11032; Manufacturer: Texas Instruments; PartNumber: 74ACT11032D; VCC(Min)(V): 4.5; VCC(Max)(V): 5.5; Output Type: CMOS; ICC @ Nom Voltage(Max)(mA): 0.04; Input Type: TTL; Bits(#): 4; F @ Nom Voltage(Max)(Mhz): 90; Rating: Catalog; Voltage(Nom)(V): 5; Output Drive (IOL/IOH)(Max)(mA): 24/-24; tpd @ Nom Voltage(Max)(ns): 9; DatasheetVersion: SCAS008C; PackageReference: D0016A; Operating Temperature Range(C): -40 to 85; Code_JEDEC: MS-012 variation AC; ComponentLink1Description: Manufacturer URL; ComponentLink1URL: http://www.ti.com/; ComponentLink2Description: Datasheet; ComponentLink2URL: http://www.ti.com/lit/ds/symlink/74act11032.pdf; ComponentLink3Description: Package Specification; ComponentLink3URL: http://www.ti.com/lit/ml/mpds178g/mpds178g.pdf
footprint D0016A_N (SOIC, 16-Leads, Body 10x4mm, Pitch 1.27mm, IPC Medium Density)
footprint D0016A_M (SOIC, 16-Leads, Body 10x4mm, Pitch 1.27mm, IPC Low Density)
footprint D0016A_L (SOIC, 16-Leads, Body 10x4mm, Pitch 1.27mm, IPC High Density)
part A pins: 1 1A (in), 2 1Y (out), 16 1B (in)
part B pins: 3 2Y (out), 14 2B (in), 15 2A (in)
part C pins: 6 3Y (out), 10 3B (in), 11 3A (in)
part D pins: 7 4Y (out), 8 4B (in), 9 4A (in)
part E pins: 4 GND (power), 5 GND (power), 12 VCC (power), 13 VCC (power)

## 74ACT11032DR
designator U?
Quadruple 2-Input Positive-OR Gates, D0016A, LARGE T&R; Generic Part Number: 74ACT11032; Manufacturer: Texas Instruments; PartNumber: 74ACT11032DR; VCC(Min)(V): 4.5; VCC(Max)(V): 5.5; Output Type: CMOS; ICC @ Nom Voltage(Max)(mA): 0.04; Input Type: TTL; Bits(#): 4; F @ Nom Voltage(Max)(Mhz): 90; Rating: Catalog; Voltage(Nom)(V): 5; Output Drive (IOL/IOH)(Max)(mA): 24/-24; tpd @ Nom Voltage(Max)(ns): 9; DatasheetVersion: SCAS008C; PackageReference: D0016A; Operating Temperature Range(C): -40 to 85; Code_JEDEC: MS-012 variation AC; ComponentLink1Description: Manufacturer URL; ComponentLink1URL: http://www.ti.com/; ComponentLink2Description: Datasheet; ComponentLink2URL: http://www.ti.com/lit/ds/symlink/74act11032.pdf; ComponentLink3Description: Package Specification; ComponentLink3URL: http://www.ti.com/lit/ml/mpds178g/mpds178g.pdf
footprint D0016A_N (SOIC, 16-Leads, Body 10x4mm, Pitch 1.27mm, IPC Medium Density)
footprint D0016A_M (SOIC, 16-Leads, Body 10x4mm, Pitch 1.27mm, IPC Low Density)
footprint D0016A_L (SOIC, 16-Leads, Body 10x4mm, Pitch 1.27mm, IPC High Density)
part A pins: 1 1A (in), 2 1Y (out), 16 1B (in)
part B pins: 3 2Y (out), 14 2B (in), 15 2A (in)
part C pins: 6 3Y (out), 10 3B (in), 11 3A (in)
part D pins: 7 4Y (out), 8 4B (in), 9 4A (in)
part E pins: 4 GND (power), 5 GND (power), 12 VCC (power), 13 VCC (power)

## 74ACT11032N
designator U?
Quadruple 2-Input Positive-OR Gates, N0016A, TUBE; Generic Part Number: 74ACT11032; Manufacturer: Texas Instruments; PartNumber: 74ACT11032N; VCC(Min)(V): 4.5; VCC(Max)(V): 5.5; Output Type: CMOS; ICC @ Nom Voltage(Max)(mA): 0.04; Input Type: TTL; Bits(#): 4; F @ Nom Voltage(Max)(Mhz): 90; Rating: Catalog; Voltage(Nom)(V): 5; Output Drive (IOL/IOH)(Max)(mA): 24/-24; tpd @ Nom Voltage(Max)(ns): 9; DatasheetVersion: SCAS008C; PackageReference: N0016A; Operating Temperature Range(C): -40 to 85; Code_JEDEC: MS-001; ComponentLink1Description: Manufacturer URL; ComponentLink1URL: http://www.ti.com/; ComponentLink2Description: Datasheet; ComponentLink2URL: http://www.ti.com/lit/ds/symlink/74act11032.pdf; ComponentLink3Description: Package Specification; ComponentLink3URL: http://www.ti.com/lit/ml/mpdi002c/mpdi002c.pdf
footprint N0016A (DIP, 16-Leads, Body 19.7x6.6mm, Pitch 2.54mm)
part A pins: 1 1A (in), 2 1Y (out), 16 1B (in)
part B pins: 3 2Y (out), 14 2B (in), 15 2A (in)
part C pins: 6 3Y (out), 10 3B (in), 11 3A (in)
part D pins: 7 4Y (out), 8 4B (in), 9 4A (in)
part E pins: 4 GND (power), 5 GND (power), 12 VCC (power), 13 VCC (power)

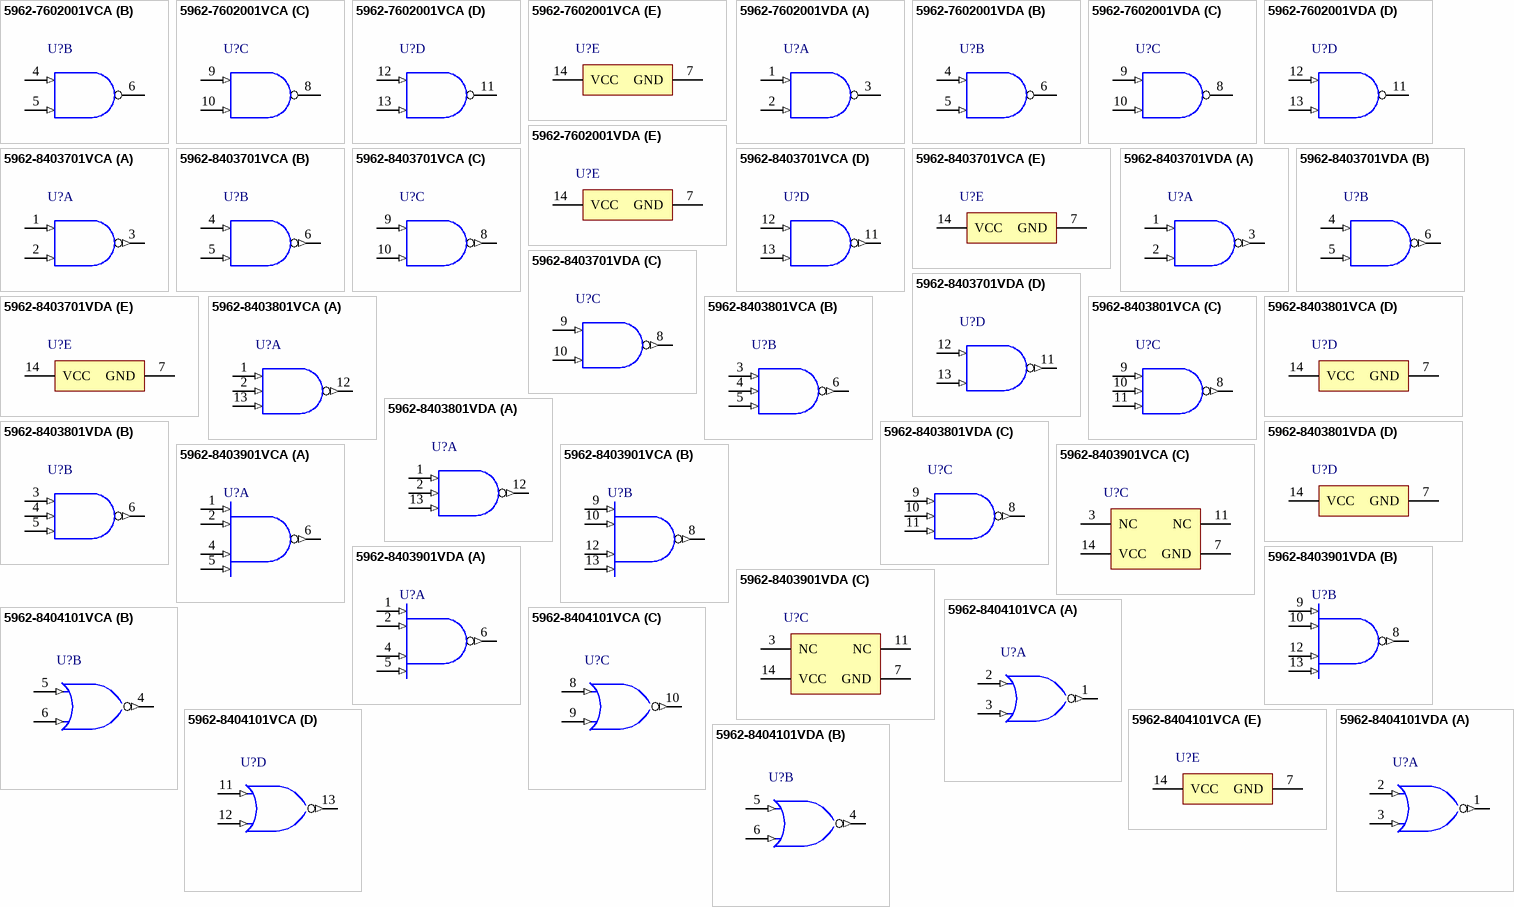
[diagram p3: symbols 5962-7602001VCA to 5962-8404101VDA]

## 5962-7602001VCA
designator U?
Quadruple 2-Input High-Voltage Interface Positive-NAND Gates, J0014A, TUBE; Generic Part Number: SN54LS26-SP; Manufacturer: Texas Instruments; PartNumber: 5962-7602001VCA; VCC(Min)(V): 4.5; VCC(Max)(V): 5.5; Output Type: TTL; Rating: Space; Technology Family: LS; Schmitt Trigger: No; DatasheetVersion: SDLS087; PackageReference: J0014A; Input Type: TTL; Operating Temperature Range(C): -55 to 125; ComponentLink1Description: Manufacturer URL; ComponentLink1URL: http://www.ti.com/; ComponentLink2Description: Datasheet; ComponentLink2URL: http://www.ti.com/lit/ds/symlink/sn54ls26-sp.pdf; ComponentLink3Description: Package Specification; ComponentLink3URL: http://www.ti.com/lit/ml/mcer002d/mcer002d.pdf
footprint J0014A (DIP, 14-Leads, Body 19.95x7.2mm, Pitch 2.54mm)
part A pins: 1 1A (in), 2 1B (in), 3 1Y (oc)
part B pins: 4 2A (in), 5 2B (in), 6 2Y (oc)
part C pins: 8 3Y (oc), 9 3A (in), 10 3B (in)
part D pins: 11 4Y (oc), 12 4A (in), 13 4B (in)
part E pins: 7 GND (power), 14 VCC (power)

## 5962-7602001VDA
designator U?
Quadruple 2-Input High-Voltage Interface Positive-NAND Gates, W0014A, TUBE; Generic Part Number: SN54LS26-SP; Manufacturer: Texas Instruments; PartNumber: 5962-7602001VDA; VCC(Min)(V): 4.5; VCC(Max)(V): 5.5; Output Type: TTL; Rating: Space; Technology Family: LS; Schmitt Trigger: No; DatasheetVersion: SDLS087; PackageReference: W0014A; Input Type: TTL; Operating Temperature Range(C): -55 to 125; ComponentLink1Description: Manufacturer URL; ComponentLink1URL: http://www.ti.com/; ComponentLink2Description: Datasheet; ComponentLink2URL: http://www.ti.com/lit/ds/symlink/sn54ls26-sp.pdf; ComponentLink3Description: Package Specification; ComponentLink3URL: http://www.ti.com/lit/ml/mcfp002c/mcfp002c.pdf
footprint W0014A_N (CFP, 14-Leads, Body 9.91x6.6mm, Pitch 1.27mm, IPC Medium Density)
footprint W0014A_M (CFP, 14-Leads, Body 9.91x6.6mm, Pitch 1.27mm, IPC Low Density)
footprint W0014A_L (CFP, 14-Leads, Body 9.91x6.6mm, Pitch 1.27mm, IPC High Density)
part A pins: 1 1A (in), 2 1B (in), 3 1Y (oc)
part B pins: 4 2A (in), 5 2B (in), 6 2Y (oc)
part C pins: 8 3Y (oc), 9 3A (in), 10 3B (in)
part D pins: 11 4Y (oc), 12 4A (in), 13 4B (in)
part E pins: 7 GND (power), 14 VCC (power)

## 5962-8403701VCA
designator U?
Quadruple 2-Input Positive-NAND Gates, J0014A, TUBE; Generic Part Number: SN54HC00-SP; Manufacturer: Texas Instruments; PartNumber: 5962-8403701VCA; VCC(Min)(V): 2; VCC(Max)(V): 6; Output Type: CMOS; Rating: Space; Technology Family: HC; Schmitt Trigger: No; DatasheetVersion: SCLS181E; PackageReference: J0014A; Input Type: CMOS; Operating Temperature Range(C): -55 to 125; ComponentLink1Description: Manufacturer URL; ComponentLink1URL: http://www.ti.com/; ComponentLink2Description: Datasheet; ComponentLink2URL: http://www.ti.com/lit/ds/symlink/sn54hc00-sp.pdf; ComponentLink3Description: Package Specification; ComponentLink3URL: http://www.ti.com/lit/ml/mcer002d/mcer002d.pdf
footprint J0014A (DIP, 14-Leads, Body 19.95x7.2mm, Pitch 2.54mm)
part A pins: 1 1A (in) "Gate 1 input", 2 1B (in) "Gate 1 input", 3 1Y (out) "Gate 1 output"
part B pins: 4 2A (in) "Gate 2 input", 5 2B (in) "Gate 2 input", 6 2Y (out) "Gate 2 output"
part C pins: 8 3Y (out) "Gate 3 output", 9 3A (in) "Gate 3 input", 10 3B (in) "Gate 3 input"
part D pins: 11 4Y (out) "Gate 4 output", 12 4A (in) "Gate 4 input", 13 4B (in) "Gate 4 input"
part E pins: 7 GND (power) "Ground Pin", 14 VCC (power) "Power Pin"

## 5962-8403701VDA
designator U?
Quadruple 2-Input Positive-NAND Gates, W0014A, TUBE; Generic Part Number: SN54HC00-SP; Manufacturer: Texas Instruments; PartNumber: 5962-8403701VDA; VCC(Min)(V): 2; VCC(Max)(V): 6; Output Type: CMOS; Rating: Space; Technology Family: HC; Schmitt Trigger: No; DatasheetVersion: SCLS181E; PackageReference: W0014A; Input Type: CMOS; Operating Temperature Range(C): -55 to 125; ComponentLink1Description: Manufacturer URL; ComponentLink1URL: http://www.ti.com/; ComponentLink2Description: Datasheet; ComponentLink2URL: http://www.ti.com/lit/ds/symlink/sn54hc00-sp.pdf; ComponentLink3Description: Package Specification; ComponentLink3URL: http://www.ti.com/lit/ml/mcfp002c/mcfp002c.pdf
footprint W0014A_N (CFP, 14-Leads, Body 9.91x6.6mm, Pitch 1.27mm, IPC Medium Density)
footprint W0014A_M (CFP, 14-Leads, Body 9.91x6.6mm, Pitch 1.27mm, IPC Low Density)
footprint W0014A_L (CFP, 14-Leads, Body 9.91x6.6mm, Pitch 1.27mm, IPC High Density)
part A pins: 1 1A (in) "Gate 1 input", 2 1B (in) "Gate 1 input", 3 1Y (out) "Gate 1 output"
part B pins: 4 2A (in) "Gate 2 input", 5 2B (in) "Gate 2 input", 6 2Y (out) "Gate 2 output"
part C pins: 8 3Y (out) "Gate 3 output", 9 3A (in) "Gate 3 input", 10 3B (in) "Gate 3 input"
part D pins: 11 4Y (out) "Gate 4 output", 12 4A (in) "Gate 4 input", 13 4B (in) "Gate 4 input"
part E pins: 7 GND (power) "Ground Pin", 14 VCC (power) "Power Pin"

## 5962-8403801VCA
designator U?
Triple 3-Input Positive-NAND Gates, J0014A, TUBE; Generic Part Number: SN54HC10-SP; Manufacturer: Texas Instruments; PartNumber: 5962-8403801VCA; VCC(Min)(V): 2; VCC(Max)(V): 6; Output Type: CMOS; Rating: Space; Technology Family: HC; Schmitt Trigger: No; DatasheetVersion: SCLS083D; PackageReference: J0014A; Input Type: CMOS; ComponentLink1Description: Manufacturer URL; ComponentLink1URL: http://www.ti.com/; ComponentLink2Description: Datasheet; ComponentLink2URL: http://www.ti.com/lit/ds/symlink/sn54hc10-sp.pdf; ComponentLink3Description: Package Specification; ComponentLink3URL: http://www.ti.com/lit/ml/mcer002d/mcer002d.pdf
footprint J0014A (DIP, 14-Leads, Body 19.95x7.2mm, Pitch 2.54mm)
part A pins: 1 1A (in), 2 1B (in), 12 1Y (out), 13 1C (in)
part B pins: 3 2A (in), 4 2B (in), 5 2C (in), 6 2Y (out)
part C pins: 8 3Y (out), 9 3A (in), 10 3B (in), 11 3C (in)
part D pins: 7 GND (power), 14 VCC (power)

## 5962-8403801VDA
designator U?
Triple 3-Input Positive-NAND Gates, W0014A, TUBE; Generic Part Number: SN54HC10-SP; Manufacturer: Texas Instruments; PartNumber: 5962-8403801VDA; VCC(Min)(V): 2; VCC(Max)(V): 6; Output Type: CMOS; Rating: Space; Technology Family: HC; Schmitt Trigger: No; DatasheetVersion: SCLS083D; PackageReference: W0014A; Input Type: CMOS; ComponentLink1Description: Manufacturer URL; ComponentLink1URL: http://www.ti.com/; ComponentLink2Description: Datasheet; ComponentLink2URL: http://www.ti.com/lit/ds/symlink/sn54hc10-sp.pdf; ComponentLink3Description: Package Specification; ComponentLink3URL: http://www.ti.com/lit/ml/mcfp002c/mcfp002c.pdf
footprint W0014A_N (CFP, 14-Leads, Body 9.91x6.6mm, Pitch 1.27mm, IPC Medium Density)
footprint W0014A_M (CFP, 14-Leads, Body 9.91x6.6mm, Pitch 1.27mm, IPC Low Density)
footprint W0014A_L (CFP, 14-Leads, Body 9.91x6.6mm, Pitch 1.27mm, IPC High Density)
part A pins: 1 1A (in), 2 1B (in), 12 1Y (out), 13 1C (in)
part B pins: 3 2A (in), 4 2B (in), 5 2C (in), 6 2Y (out)
part C pins: 8 3Y (out), 9 3A (in), 10 3B (in), 11 3C (in)
part D pins: 7 GND (power), 14 VCC (power)

## 5962-8403901VCA
designator U?
Dual 4-Input Positive-NAND Gates, J0014A, TUBE; Generic Part Number: SN54HC20-SP; Manufacturer: Texas Instruments; PartNumber: 5962-8403901VCA; VCC(Min)(V): 2; VCC(Max)(V): 6; Output Type: CMOS; Rating: Space; Technology Family: HC; Schmitt Trigger: No; DatasheetVersion: SCLS086F; PackageReference: J0014A; Input Type: CMOS; ComponentLink1Description: Manufacturer URL; ComponentLink1URL: http://www.ti.com/; ComponentLink2Description: Datasheet; ComponentLink2URL: http://www.ti.com/lit/ds/symlink/sn54hc20-sp.pdf; ComponentLink3Description: Package Specification; ComponentLink3URL: http://www.ti.com/lit/ml/mcer002d/mcer002d.pdf
footprint J0014A (DIP, 14-Leads, Body 19.95x7.2mm, Pitch 2.54mm)
part A pins: 1 1A (in), 2 1B (in), 4 1C (in), 5 1D (in), 6 1Y (out)
part B pins: 8 2Y (out), 9 2A (in), 10 2B (in), 12 2C (in), 13 2D (in)
part C pins: 3 NC, 7 GND (power), 11 NC, 14 VCC (power)

## 5962-8403901VDA
designator U?
Dual 4-Input Positive-NAND Gates, W0014A, TUBE; Generic Part Number: SN54HC20-SP; Manufacturer: Texas Instruments; PartNumber: 5962-8403901VDA; VCC(Min)(V): 2; VCC(Max)(V): 6; Output Type: CMOS; Rating: Space; Technology Family: HC; Schmitt Trigger: No; DatasheetVersion: SCLS086F; PackageReference: W0014A; Input Type: CMOS; ComponentLink1Description: Manufacturer URL; ComponentLink1URL: http://www.ti.com/; ComponentLink2Description: Datasheet; ComponentLink2URL: http://www.ti.com/lit/ds/symlink/sn54hc20-sp.pdf; ComponentLink3Description: Package Specification; ComponentLink3URL: http://www.ti.com/lit/ml/mcfp002c/mcfp002c.pdf
footprint W0014A_N (CFP, 14-Leads, Body 9.91x6.6mm, Pitch 1.27mm, IPC Medium Density)
footprint W0014A_M (CFP, 14-Leads, Body 9.91x6.6mm, Pitch 1.27mm, IPC Low Density)
footprint W0014A_L (CFP, 14-Leads, Body 9.91x6.6mm, Pitch 1.27mm, IPC High Density)
part A pins: 1 1A (in), 2 1B (in), 4 1C (in), 5 1D (in), 6 1Y (out)
part B pins: 8 2Y (out), 9 2A (in), 10 2B (in), 12 2C (in), 13 2D (in)
part C pins: 3 NC, 7 GND (power), 11 NC, 14 VCC (power)

## 5962-8404101VCA
designator U?
Quadruple 2-Input Positive-NOR Gates, J0014A, TUBE; Generic Part Number: SN54HC02-SP; Manufacturer: Texas Instruments; PartNumber: 5962-8404101VCA; VCC(Min)(V): 2; VCC(Max)(V): 6; Output Type: CMOS; Bits(#): 4; Rating: Space; tpd @ Nom Voltage(Max)(ns): 23; ICC @ Nom Voltage(Max)(mA): 0.02; F @ Nom Voltage(Max)(Mhz): 70; Voltage(Nom)(V): 5; Output Drive (IOL/IOH)(Max)(mA): 4/-4; DatasheetVersion: SCLS076E; PackageReference: J0014A; Input Type: CMOS; Operating Temperature Range(C): -55 to 125; ComponentLink1Description: Manufacturer URL; ComponentLink1URL: http://www.ti.com/; ComponentLink2Description: Datasheet; ComponentLink2URL: http://www.ti.com/lit/ds/symlink/sn54hc02-sp.pdf; ComponentLink3Description: Package Specification; ComponentLink3URL: http://www.ti.com/lit/ml/mcer002d/mcer002d.pdf
footprint J0014A (DIP, 14-Leads, Body 19.95x7.2mm, Pitch 2.54mm)
part A pins: 1 1Y (out) "1Y output", 2 1A (in) "1A input", 3 1B (in) "1B input"
part B pins: 4 2Y (out) "2Y output", 5 2A (in) "2A input", 6 2B (in) "2B input"
part C pins: 8 3A (in) "3A input", 9 3B (in) "3B input", 10 3Y (out) "3Y output"
part D pins: 11 4A (in) "4A input", 12 4B (in) "4B input", 13 4Y (out) "4Y output"
part E pins: 7 GND (power), 14 VCC (power)

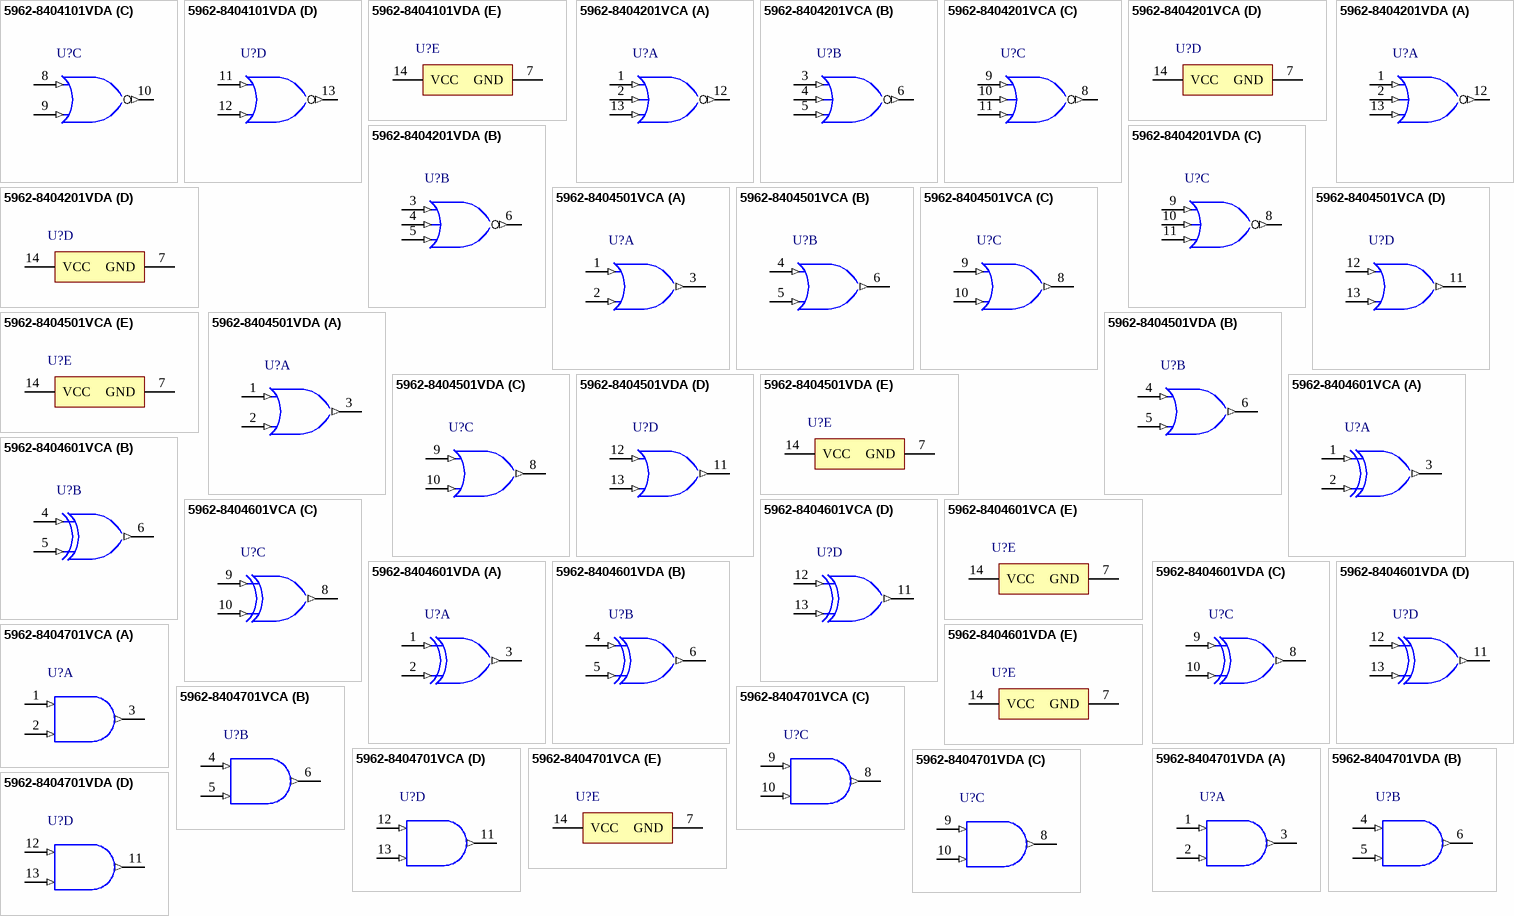
[diagram p4: symbols 5962-8404101VDA to 5962-8404701VDA]

## 5962-8404101VDA
designator U?
Quadruple 2-Input Positive-NOR Gates, W0014A, TUBE; Generic Part Number: SN54HC02-SP; Manufacturer: Texas Instruments; PartNumber: 5962-8404101VDA; VCC(Min)(V): 2; VCC(Max)(V): 6; Output Type: CMOS; Bits(#): 4; Rating: Space; tpd @ Nom Voltage(Max)(ns): 23; ICC @ Nom Voltage(Max)(mA): 0.02; F @ Nom Voltage(Max)(Mhz): 70; Voltage(Nom)(V): 5; Output Drive (IOL/IOH)(Max)(mA): 4/-4; DatasheetVersion: SCLS076E; PackageReference: W0014A; Input Type: CMOS; Operating Temperature Range(C): -55 to 125; ComponentLink1Description: Manufacturer URL; ComponentLink1URL: http://www.ti.com/; ComponentLink2Description: Datasheet; ComponentLink2URL: http://www.ti.com/lit/ds/symlink/sn54hc02-sp.pdf; ComponentLink3Description: Package Specification; ComponentLink3URL: http://www.ti.com/lit/ml/mcfp002c/mcfp002c.pdf
footprint W0014A_N (CFP, 14-Leads, Body 9.91x6.6mm, Pitch 1.27mm, IPC Medium Density)
footprint W0014A_M (CFP, 14-Leads, Body 9.91x6.6mm, Pitch 1.27mm, IPC Low Density)
footprint W0014A_L (CFP, 14-Leads, Body 9.91x6.6mm, Pitch 1.27mm, IPC High Density)
part A pins: 1 1Y (out) "1Y output", 2 1A (in) "1A input", 3 1B (in) "1B input"
part B pins: 4 2Y (out) "2Y output", 5 2A (in) "2A input", 6 2B (in) "2B input"
part C pins: 8 3A (in) "3A input", 9 3B (in) "3B input", 10 3Y (out) "3Y output"
part D pins: 11 4A (in) "4A input", 12 4B (in) "4B input", 13 4Y (out) "4Y output"
part E pins: 7 GND (power), 14 VCC (power)

## 5962-8404201VCA
designator U?
Triple 3-Input Positive-NOR Gates, J0014A, TUBE; Generic Part Number: SN54HC27-SP; Manufacturer: Texas Instruments; PartNumber: 5962-8404201VCA; VCC(Min)(V): 2; VCC(Max)(V): 6; Output Type: CMOS; Bits(#): 3; Rating: Space; tpd @ Nom Voltage(Max)(ns): 135; DatasheetVersion: SCLS088D; PackageReference: J0014A; Input Type: CMOS; ComponentLink1Description: Manufacturer URL; ComponentLink1URL: http://www.ti.com/; ComponentLink2Description: Datasheet; ComponentLink2URL: http://www.ti.com/lit/ds/symlink/sn54hc27-sp.pdf; ComponentLink3Description: Package Specification; ComponentLink3URL: http://www.ti.com/lit/ml/mcer002d/mcer002d.pdf
footprint J0014A (DIP, 14-Leads, Body 19.95x7.2mm, Pitch 2.54mm)
part A pins: 1 1A (in), 2 1B (in), 12 1Y (out), 13 1C (in)
part B pins: 3 2A (in), 4 2B (in), 5 2C (in), 6 2Y (out)
part C pins: 8 3Y (out), 9 3A (in), 10 3B (in), 11 3C (in)
part D pins: 7 GND (power), 14 VCC (power)

## 5962-8404201VDA
designator U?
Triple 3-Input Positive-NOR Gates, W0014A, TUBE; Generic Part Number: SN54HC27-SP; Manufacturer: Texas Instruments; PartNumber: 5962-8404201VDA; VCC(Min)(V): 2; VCC(Max)(V): 6; Output Type: CMOS; Bits(#): 3; Rating: Space; tpd @ Nom Voltage(Max)(ns): 135; DatasheetVersion: SCLS088D; PackageReference: W0014A; Input Type: CMOS; ComponentLink1Description: Manufacturer URL; ComponentLink1URL: http://www.ti.com/; ComponentLink2Description: Datasheet; ComponentLink2URL: http://www.ti.com/lit/ds/symlink/sn54hc27-sp.pdf; ComponentLink3Description: Package Specification; ComponentLink3URL: http://www.ti.com/lit/ml/mcfp002c/mcfp002c.pdf
footprint W0014A_N (CFP, 14-Leads, Body 9.91x6.6mm, Pitch 1.27mm, IPC Medium Density)
footprint W0014A_M (CFP, 14-Leads, Body 9.91x6.6mm, Pitch 1.27mm, IPC Low Density)
footprint W0014A_L (CFP, 14-Leads, Body 9.91x6.6mm, Pitch 1.27mm, IPC High Density)
part A pins: 1 1A (in), 2 1B (in), 12 1Y (out), 13 1C (in)
part B pins: 3 2A (in), 4 2B (in), 5 2C (in), 6 2Y (out)
part C pins: 8 3Y (out), 9 3A (in), 10 3B (in), 11 3C (in)
part D pins: 7 GND (power), 14 VCC (power)

## 5962-8404501VCA
designator U?
Quadruple 2-Input Positive-OR Gates, J0014A, TUBE; Generic Part Number: SN54HC32-SP; Manufacturer: Texas Instruments; PartNumber: 5962-8404501VCA; VCC(Min)(V): 2; VCC(Max)(V): 6; Output Type: CMOS; Bits(#): 4; Rating: Space; tpd @ Nom Voltage(Max)(ns): 150; DatasheetVersion: SCLS200D; PackageReference: J0014A; Input Type: CMOS; Operating Temperature Range(C): -55 to 125; ComponentLink1Description: Manufacturer URL; ComponentLink1URL: http://www.ti.com/; ComponentLink2Description: Datasheet; ComponentLink2URL: http://www.ti.com/lit/ds/symlink/sn54hc32-sp.pdf; ComponentLink3Description: Package Specification; ComponentLink3URL: http://www.ti.com/lit/ml/mcer002d/mcer002d.pdf
footprint J0014A (DIP, 14-Leads, Body 19.95x7.2mm, Pitch 2.54mm)
part A pins: 1 1A (in), 2 1B (in), 3 1Y (out)
part B pins: 4 2A (in), 5 2B (in), 6 2Y (out)
part C pins: 8 3Y (out), 9 3A (in), 10 3B (in)
part D pins: 11 4Y (out), 12 4A (in), 13 4B (in)
part E pins: 7 GND (power), 14 VCC (power)